# EAGLE library part 50224-006 (library con-aces-50224-series)
ACES CONNECTORS 50224 SERIES Aces Connectors 50224 <https://www.acesconn.com/tw/series/50224-xxxxx-xxx/3165>
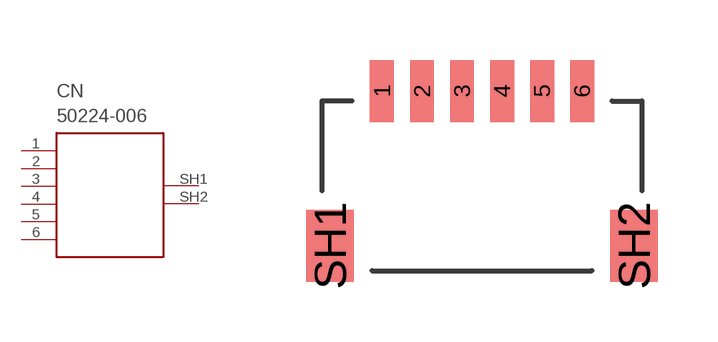
[diagram p2: symbol with the pads of 50224-006; footprint 50224-006]

Designator prefix CN

## 50224-006  [50224-006]
1  1
2  2
3  3
4  4
5  5
6  6
SH1  SH1
SH2  SH2

## Footprint 50224-006 (pad centres in mm)
smd 0.6 x 1.55: 1 -2.5,0; 2 -1.5,0; 3 -0.5,0; 4 0.5,0; 5 1.5,0; 6 2.5,0
smd 1.2 x 1.8: SH1 -3.8,-3.875; SH2 3.8,-3.875